# EAGLE library part MAX1169 (library LVK)
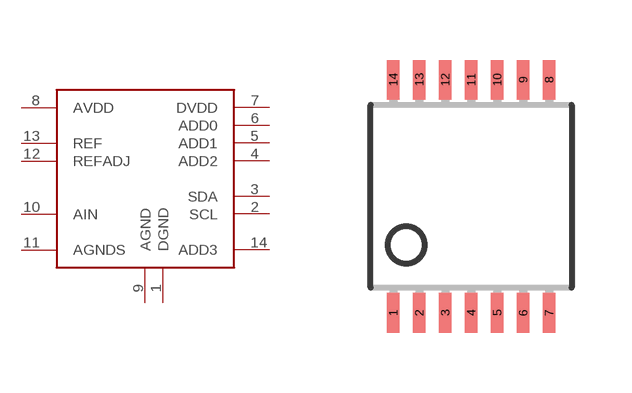
[diagram p1: symbol with the pads of TTSOP14; footprint TTSOP14]

Designator prefix -

## MAX1169  [TTSOP14]
1  DGND
2  SCL
3  SDA
4  ADD2
5  ADD1
6  ADD0
7  DVDD
8  AVDD
9  AGND
10  AIN
11  AGNDS
12  REFADJ
13  REF
14  ADD3

## Footprint TTSOP14 (pad centres in mm)
smd 0.305 x 0.991: 1 -1.95,-2.918; 2 -1.3,-2.918; 3 -0.65,-2.918; 4 0,-2.918; 5 0.65,-2.918; 6 1.3,-2.918; 7 1.95,-2.918; 8 1.95,2.918; 9 1.3,2.918; 10 0.65,2.918; 11 0,2.918; 12 -0.65,2.918; 13 -1.3,2.918; 14 -1.95,2.918